# Altium footprint library RF_WiFi.PcbLib: 1 footprints
Each footprint in its own frame and in the unit in brackets; x right, y up, seen from the top. Pads: shape width x height; smd on the part's side, far side on the other; paste and mask are expansions set on the pad; w line width, h text height; cw(c..) or ccw(c..) is an arc to the next point about the centre after c.
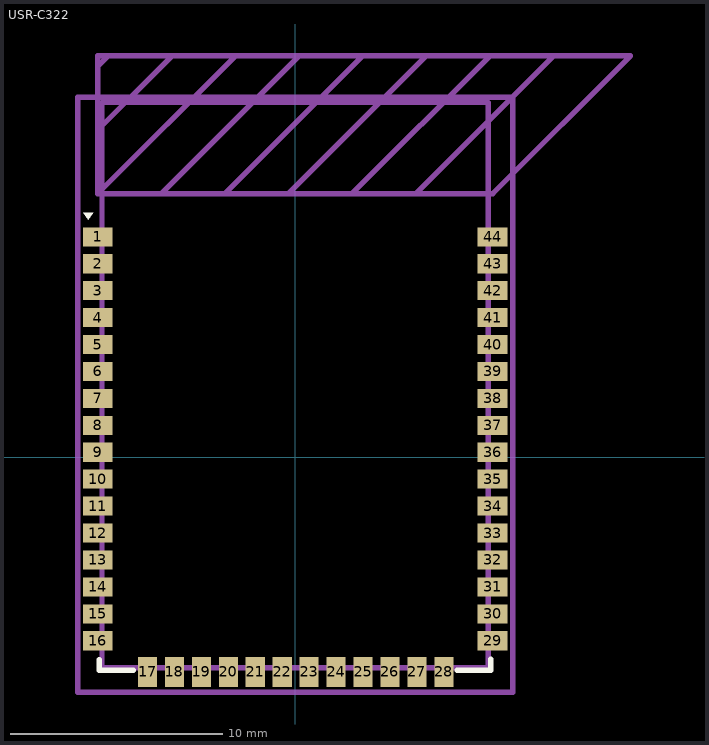
[diagram p0: the footprint, top view; thin cyan lines are the x and y axes]

## USR-C322 [mm]
pads (44):
  rect 1.4x0.9 smd: 1(-9.31,10.385) 2(-9.31,9.115) 3(-9.31,7.845) 4(-9.31,6.575) 5(-9.31,5.305) 6(-9.31,4.035) 7(-9.31,2.765) 8(-9.31,1.495) 9(-9.31,0.225) 10(-9.31,-1.045) 11(-9.31,-2.315) 12(-9.31,-3.585) 13(-9.31,-4.855) 14(-9.31,-6.125) 15(-9.31,-7.395) 16(-9.31,-8.665) 29(9.31,-8.665) 30(9.31,-7.395) 31(9.31,-6.125) 32(9.31,-4.855) 33(9.31,-3.585) 34(9.31,-2.315) 35(9.31,-1.045) 36(9.31,0.225) 37(9.31,1.495) 38(9.31,2.765) 39(9.31,4.035) 40(9.31,5.305) 41(9.31,6.575) 42(9.31,7.845) 43(9.31,9.115) 44(9.31,10.385)
  rect 0.9x1.4 smd: 17(-6.96,-10.135) 18(-5.69,-10.135) 19(-4.42,-10.135) 20(-3.15,-10.135) 21(-1.88,-10.135) 22(-0.61,-10.135) 23(0.66,-10.135) 24(1.93,-10.135) 25(3.2,-10.135) 26(4.47,-10.135) 27(5.74,-10.135) 28(7.01,-10.135)
F.SilkS:
  region: -9.76,11.2 -10,11.53 -9.52,11.53
  lines w0.254: -9.23,-9.555 -9.23,-10.05 -7.63,-10.05 ; 7.63,-10.05 9.23,-10.05 ; 9.23,-10.045 9.23,-9.545
F.Fab:
  lines w0.254: -9.11,-9.93 -9.11,16.72 9.11,16.72 9.11,-9.93 -9.11,-9.93
  text "'.Designator'" at -3.727,0.425 h1
F.CrtYd:
  lines w0.254: -10.26,-11.09 -10.26,16.97 10.26,16.97 10.26,-11.09 -10.26,-11.09
Dwgs.User:
  lines w0.254: -9.31,12.415 9.31,12.415 15.81,18.915 9.31,18.915 -9.31,18.915 -9.31,12.417 ; -9.31,12.42 -2.82,18.92 ; -9.31,15.42 -5.81,18.91 ; -9.31,18.42 -8.82,18.91 ; -6.3,12.42 0.19,18.91 ; -3.31,12.42 3.18,18.91 ; -0.31,12.42 6.18,18.91 ; 2.69,12.42 9.18,18.91 ; 5.69,12.42 12.18,18.91
Cmts.User:
  text "Antenna" at -2.136,16.615 h1
  text "No Copper" at -3.018,13.618 h1